# Altium footprint library PcbLib1.PcbLib: 36 footprints (part 3 of 3)
Each footprint in its own frame and in the unit in brackets; x right, y up, seen from the top. Pads: shape width x height; smd on the part's side, far side on the other; paste and mask are expansions set on the pad; w line width, h text height; cw(c..) or ccw(c..) is an arc to the next point about the centre after c.
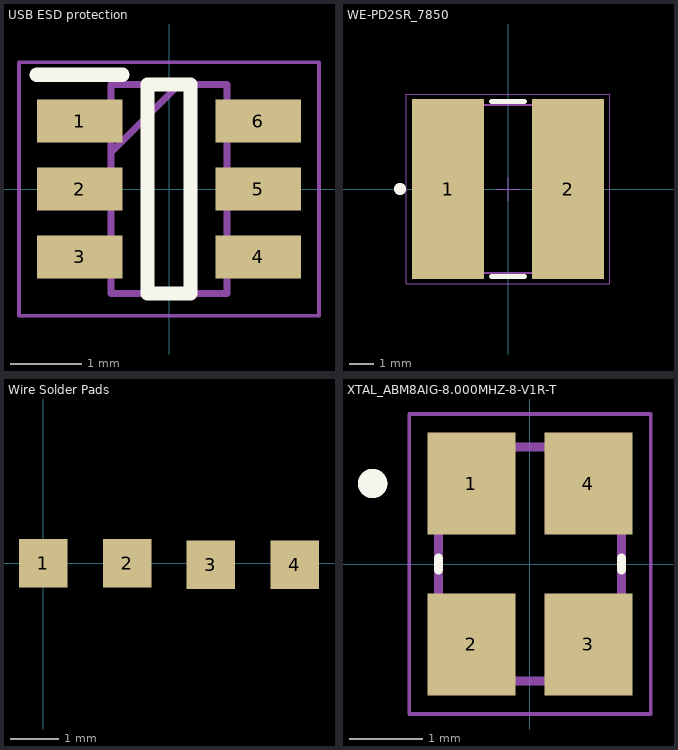
[diagram p2: the footprints below, top view; thin cyan lines are the x and y axes]

## USB ESD protection [mm] "SOT95P280X145-6N"
pads (6):
  rect 1.2x0.6 smd: 1(-1.25,0.95) 2(-1.25,0) 3(-1.25,-0.95) 4(1.25,-0.95) 5(1.25,0) 6(1.25,0.95)
Top Overlay:
  lines w0.2: -1.85,1.6 -0.65,1.6 ; -0.3,-1.462 -0.3,1.462 0.3,1.462 0.3,-1.462 -0.3,-1.462
Mechanical 13:
  lines w0.05: -2.1,-1.775 -2.1,1.775 2.1,1.775 2.1,-1.775 -2.1,-1.775
  lines w0.1: -0.812,0.512 0.138,1.462 ; -0.812,-1.462 -0.812,1.462 0.812,1.462 0.812,-1.462 -0.812,-1.462
3D body "step_temp.STEP": height 0.4, standoff -1.05, extent -1.4,-1.462 1.4,1.462

## WE-PD2SR_7850 [mm] "SMD Shielded Power Inductor, body 7.8x7.0mm"
height 5
pads (2):
  rect 3x7.5 smd: 1(-2.5,0) 2(2.5,0)
Top Overlay:
  circle w0.25: c-4.5,0 r0.125
  lines w0.2: -0.7,-3.65 0.7,-3.65 ; -0.7,3.65 0.7,3.65
Top 3D Body:
  circle w0.1: c-2,2 r0.35
  lines w0.1: -1.744,-3.488 cw(c0,0) -1.722,3.499 ; -1.722,-3.5 1.722,-3.5 ; -1.722,3.5 1.722,3.5 ; 1.722,3.499 cw(c0,0) 1.744,-3.488
Top Courtyard:
  lines w0.05: -0.5,0 0.5,0 ; 0,-0.5 0,0.5 ; -4.25,-3.95 -4.25,3.95 4.25,3.95 4.25,-3.95 -4.25,-3.95
Top Designator:
  text ".Designator" at -7.498,-0.5 h1.5
Top Component Outline:
  circle w0.1: c-2,2 r0.35
  lines w0.1: -1.744,-3.488 cw(c0,0) -1.722,3.499 ; -1.722,-3.5 1.722,-3.5 ; -1.722,3.5 1.722,3.5 ; 1.722,3.499 cw(c0,0) 1.744,-3.488
3D body "744787xxx.stp": height 5, standoff 0, extent -3.9,-3.5 3.9,3.5

## Wire Solder Pads [mm]
pads (4):
  rect 1x1 smd: 1(0,0) 2(1.727,0) 3(3.454,-0.025) 4(5.182,-0.025)

## XTAL_ABM8AIG-8.000MHZ-8-V1R-T [mm]
height 0.8
pads (4):
  rect 1.2x1.4 smd: 1(-0.8,1.1) 2(-0.8,-1.1) 3(0.8,-1.1) 4(0.8,1.1)
Top Overlay:
  circle w0.2: c-2.15,1.1 r0.1
  lines w0.127: -1.25,-0.08 -1.25,0.08 ; 1.25,-0.08 1.25,0.08
Mechanical 13:
  circle w0.2: c-2.15,1.1 r0.1
  lines w0.127: -1.25,-1.6 -1.25,1.6 1.25,1.6 1.25,-1.6 -1.25,-1.6
Mechanical 15:
  lines w0.05: -1.65,-2.05 -1.65,2.05 1.65,2.05 1.65,-2.05 -1.65,-2.05